# Altium schematic symbol library B3B-XH-A(LF)(SN).SchLib: 1 symbol
Pins are listed as number, name and electrical type; pins without a type are passive.

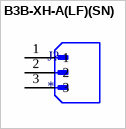
[diagram p0: symbol B3B-XH-A(LF)(SN)]

## B3B-XH-A(LF)(SN)
designator J?
MP: B3B-XH-A(LF)(SN); Value: *; Availability: Unavailable; Package: None; Price: None
footprint JST_B3B-XH-A(LF)(SN)
pins: 1, 2, 3